# Altium schematic symbol library PCB_Image.SchLib: 1 symbol
Pins are listed as number, name and electrical type; pins without a type are passive.

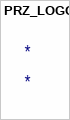
[diagram p0: symbol PRZ_LOGO]

## PRZ_LOGO
designator *
footprint PRZ_LOGO